# Altium footprint library PCB_REAL2.PcbLib: 35 footprints (part 3 of 3)
Each footprint in its own frame and in the unit in brackets; x right, y up, seen from the top. Pads: shape width x height; smd on the part's side, far side on the other; paste and mask are expansions set on the pad; w line width, h text height; cw(c..) or ccw(c..) is an arc to the next point about the centre after c.
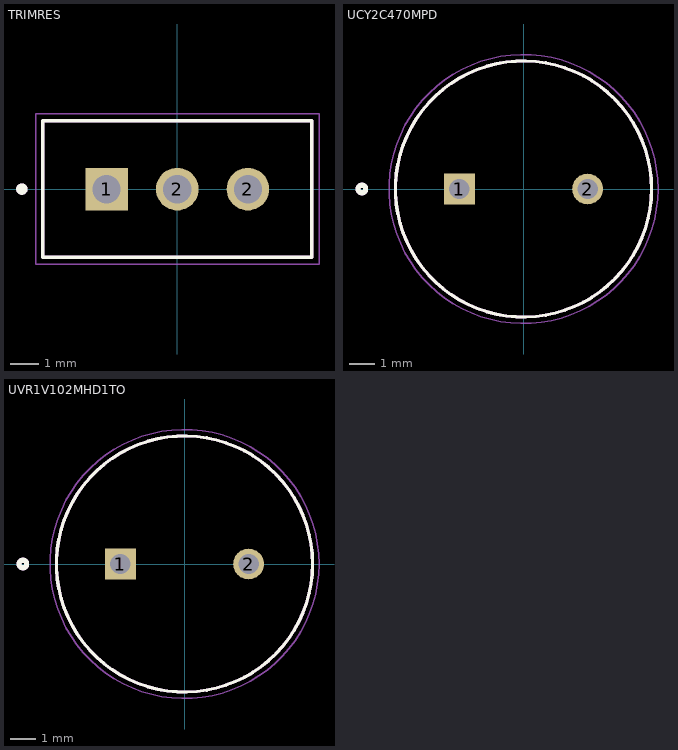
[diagram p2: the footprints below, top view; thin cyan lines are the x and y axes]

## TRIMRES [mm]
pads (3):
  rect 1.508x1.508 hole 1: 1(-2.5,0)
  round 1.508 hole 1: 2(0,0) 2(2.5,0)
Top Overlay:
  circle w0.2: c-5.5,0 r0.1
  lines w0.127: -4.765,-2.41 -4.765,2.42 4.765,2.42 4.765,-2.41 -4.765,-2.41
Mechanical 13:
  circle w0.2: c-5.5,0 r0.1
  lines w0.127: -4.765,-2.41 -4.765,2.42 4.765,2.42 4.765,-2.41 -4.765,-2.41
Mechanical 15:
  lines w0.05: -5.015,-2.66 -5.015,2.67 5.015,2.67 5.015,-2.66 -5.015,-2.66
3D body "3296W-1-102ALF.STEP": height 7.21, standoff -12.06, extent -4.765,-2.413 4.765,2.417

## UCY2C470MPD [mm]
pads (2):
  rect 1.2x1.2 hole 0.8: 1(-2.5,0)
  round 1.2 hole 0.8: 2(2.5,0)
Top Overlay:
  circle w0.2: c-6.312,0 r0.15
  circle w0.2: c-6.312,0 r0.15
  circle w0.127: c0,0 r5
Mechanical 13:
  circle w0.2: c-6.312,0 r0.15
  circle w0.127: c0,0 r5
Mechanical 15:
  circle w0.05: c0,0 r5.25
3D body "UCY2C390MPD1TD.STEP": height 20, standoff -22, extent -6.25,-6.35 6.25,6.15

## UVR1V102MHD1TO [mm]
pads (2):
  rect 1.2x1.2 hole 0.8: 1(-2.5,0)
  round 1.2 hole 0.8: 2(2.5,0)
Top Overlay:
  circle w0.127: c0,0 r5
  circle w0.2: c-6.312,0 r0.15
  circle w0.2: c-6.312,0 r0.15
Mechanical 13:
  circle w0.127: c0,0 r5
  circle w0.2: c-6.312,0 r0.15
Mechanical 15:
  circle w0.05: c0,0 r5.25
3D body "UVR1V102MHD1TO.STEP": height 22, standoff -20, extent -6.25,-6.35 6.25,6.15